# Altium schematic symbol library 555.SchLib: 1 symbol
Pins are listed as number, name and electrical type; pins without a type are passive.

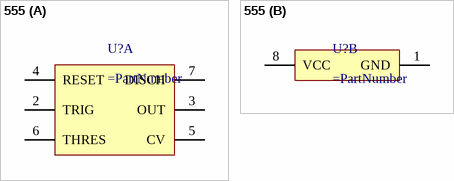
[diagram p0: symbol 555]

## 555
designator U?
part A pins: 2 TRIG, 3 OUT, 4 RESET, 5 CV, 6 THRES, 7 DISCH
part B pins: 1 GND, 8 VCC